# Altium footprint library PcbLib1.PcbLib: 11 footprints
Each footprint in its own frame and in the unit in brackets; x right, y up, seen from the top. Pads: shape width x height; smd on the part's side, far side on the other; paste and mask are expansions set on the pad; w line width, h text height; cw(c..) or ccw(c..) is an arc to the next point about the centre after c.
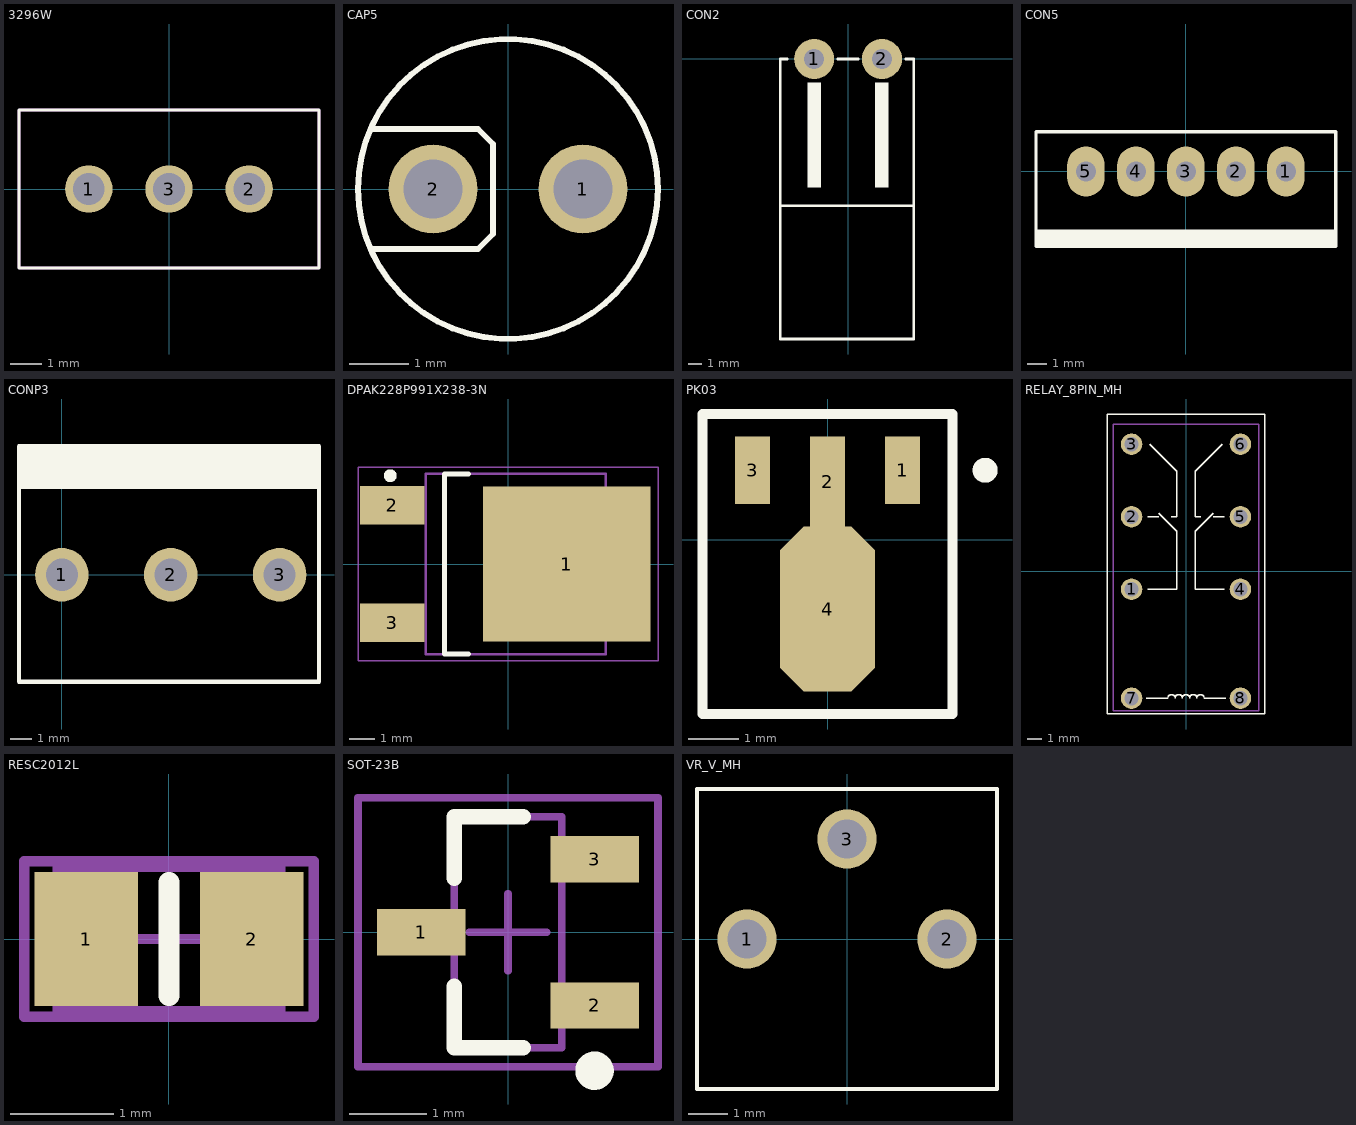
[diagram p0: the footprints below, top view; thin cyan lines are the x and y axes]

## 3296W [mm]
pads (3):
  round 1.5 hole 1 mask+0.01: 1(-2.54,0) 2(2.54,0) 3(0,0)
Top Overlay:
  lines w0.1: -4.75,-2.5 4.75,-2.5 4.75,2.5 -4.75,2.5 -4.75,-2.5
Mechanical 1:
  lines w0.1: -4.75,-2.5 4.75,-2.5 4.75,2.5 -4.75,2.5 -4.75,-2.5

## CAP5 [mm]
pads (2):
  round 1.5 hole 1 mask+0.01: 1(1.27,0) 2(-1.27,0)
Top Overlay:
  circle w0.1: c0,0 r2.54
  lines w0.1: -2.286,-1.016 -0.508,-1.016 -0.254,-0.762 -0.254,0.762 -0.508,1.016 -2.286,1.016

## CON2 [mm]
pads (2):
  round 3 hole 1.5: 1(-2.54,0) 2(2.54,0)
Top Overlay:
  rectangle: -3.048,-9.652 -2.032,-1.778
  rectangle: 2.032,-9.652 3.048,-1.778
  lines w0.2: -5.08,-11 4.92,-11 ; -4.572,0 -5.08,0 -5.08,-21 4.92,-21 4.92,0 4.318,0 ; -0.762,0 0.762,0

## CON5 [mm]
pads (5):
  oval 1.905x2.54 hole 1: 1(5.08,0) 2(2.54,0) 3(0,0) 4(-2.54,0) 5(-5.08,0)
Top Overlay:
  rectangle: -7.619,-3.81 7.621,-3.048
  lines w0.178: -7.62,-3.048 7.62,-3.048 ; -7.62,-3.81 7.62,-3.81 7.62,2.032 -7.62,2.032 -7.62,-3.81

## CONP3 [mm]
pads (3):
  round 2.5 hole 1.5: 1(0,0) 2(5.08,0) 3(10.16,0)
Top Overlay:
  rectangle: -2,4 12,6
  lines w0.2: -2,-5 -2,0 -2,6 12,6 12,0 12,-5 -2,-5

## DPAK228P991X238-3N [mm] "D-PAK, 3-Pads, Body 6.60x6.86mm (max), IPC Medium Density"
height 2.38
pads (3):
  rect 6.5x6 smd: 1(2.286,0)
  rect 2.5x1.5 smd: 2(-4.5,2.28) 3(-4.5,-2.28)
Top Overlay:
  circle w0.25: c-4.572,3.429 r0.125
  lines w0.2: -1.542,-3.5 -2.467,-3.5 -2.467,3.5 -1.542,3.5
Mechanical 13:
  lines w0.1: -3.2,-3.5 -3.2,3.5 3.8,3.5 3.8,-3.5 -3.2,-3.5
Mechanical 15:
  lines w0.05: -5.825,-3.75 -5.825,3.75 5.825,3.75 5.825,-3.75 -5.825,-3.75
  lines w0.1: -0.5,0 0.5,0 ; 0,-0.5 0,0.5
3D body: height 2.38, standoff 0.46, extent -3.2,-3.5 3.8,3.5

## PK03 [mm] "SOT-89; Body 4.6 x 4.25 mm, inc. leads (LxW max)"
height 1.6
pads (4):
  rect 0.7x1.35 smd: 1(1.5,1.388) 3(-1.5,1.388)
  rect 0.7x1.8 smd: 2(0,1.162)
  oct 1.9x3.3 smd: 4(0,-1.388)
Top Overlay:
  circle w0.25: c3.15,1.388 r0.125
  lines w0.2: -2.5,-3.487 2.5,-3.487 2.5,2.512 -2.5,2.512 -2.5,-3.487

## RELAY_8PIN_MH [mm]
pads (8):
  round 1.5 hole 1 mask+0.01: 1(-3.81,-1.27) 2(-3.81,3.81) 3(-3.81,8.89) 4(3.81,-1.27) 5(3.81,3.81) 6(3.81,8.89) 7(-3.81,-8.89) 8(3.81,-8.89)
Top Overlay:
  lines w0.1: -2.794,-8.89 -1.27,-8.89 cw(c-1.016,-8.89) -0.762,-8.89 cw(c-0.508,-8.89) -0.254,-8.89 cw(c0,-8.89) 0.254,-8.89 cw(c0.508,-8.89) 0.762,-8.89 cw(c1.016,-8.89) 1.27,-8.89 2.794,-8.89 ; -2.667,-1.27 -0.635,-1.27 -0.635,2.54 -0.635,2.794 -1.905,4.064 ; -2.667,3.81 -1.905,3.81 ; -2.54,8.89 -0.635,6.985 -0.635,3.81 -1.016,3.81 ; 1.016,3.81 0.635,3.81 0.635,6.985 2.54,8.89 ; 1.905,3.81 2.667,3.81 ; 1.905,4.064 0.635,2.794 0.635,2.54 0.635,-1.27 2.667,-1.27 ; -5.5,-10 -5.5,11 5.5,11 5.5,-10 -5.5,-10
Mechanical 13:
  lines w0.1: -5.08,-9.779 -5.08,10.287 5.08,10.287 5.08,-9.779 -5.08,-9.779

## RESC2012L [mm] "Chip Resistor, Body 2.0x1.3mm, IPC High Density"
height 0.65
pads (2):
  rect 1x1.3 smd: 1(-0.8,0) 2(0.8,0)
Top Overlay:
  lines w0.2: 0,-0.55 0,0.55
Mechanical 13:
  lines w0.1: -1.075,-0.7 1.075,-0.7 1.075,0.7 -1.075,0.7 -1.075,-0.7
Mechanical 15:
  lines w0.1: -0.5,0 0.5,0 ; 0,-0.5 0,0.5 ; -1.4,-0.75 1.4,-0.75 1.4,0.75 -1.4,0.75 -1.4,-0.75
3D body: height 0.65, standoff 0, extent -1.075,-0.7 1.075,0.7

## SOT-23B [mm] "SOT23, 3-Leads, Body 2.9x1.3mm, Pitch 0.95mm, Lead Span 2.4mm, IPC Medium Density"
height 1.14
pads (3):
  rect 1.15x0.6 smd: 1(-1.125,0) 2(1.125,-0.95) 3(1.125,0.95)
Top Overlay:
  circle w0.25: c1.125,-1.8 r0.125
  lines w0.2: -0.7,-0.7 -0.7,-1.5 0.2,-1.5 ; -0.7,0.7 -0.7,1.5 0.2,1.5
Mechanical 13:
  lines w0.1: -0.7,-1.5 0.7,-1.5 0.7,1.5 -0.7,1.5 -0.7,-1.5
Mechanical 15:
  lines w0.1: -0.5,0 0.5,0 ; 0,-0.5 0,0.5 ; -1.95,-1.75 1.95,-1.75 1.95,1.75 -1.95,1.75 -1.95,-1.75
3D body: height 1.14, standoff 0, extent -0.7,-1.5 0.7,1.5

## VR_V_MH [mm]
pads (3):
  round 1.5 hole 1 mask+0.01: 1(-2.54,0) 2(2.54,0) 3(0,2.54)
Top Overlay:
  lines w0.1: -3.81,-3.81 -3.81,3.81 3.81,3.81 3.81,-3.81 -3.81,-3.81